# EAGLE library part KSZ8081RNBIA (library ICs)
1/1 Transceiver Full RMII 32-QFN (5x5)
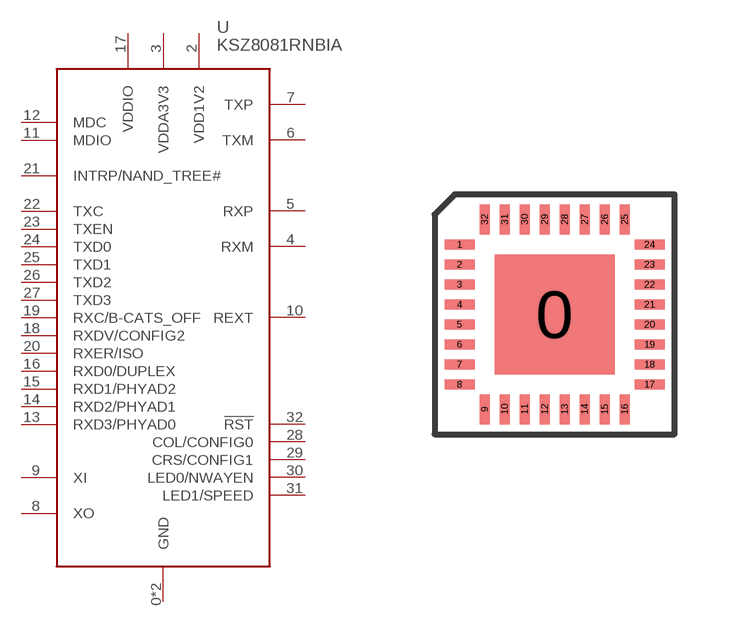
[diagram p237: symbol with the pads of QFN32; footprint QFN32]

Designator prefix U

## KSZ8081RNBIA (DIGIKEY: 576-4176-1-ND; HEIGHT: 1; PRICE_PER: 1.06; VALUE: KSZ8081)  [QFN32]
0  GND
1  GND
2  VDD1V2
3  VDDA3V3
4  RXM
5  RXP
6  TXM
7  TXP
8  XO
9  XI
10  REXT
11  MDIO
12  MDC
13  RXD3/PHYAD0
14  RXD2/PHYAD1
15  RXD1/PHYAD2
16  RXD0/DUPLEX
17  VDDIO
18  RXDV/CONFIG2
19  RXC/B-CATS_OFF
20  RXER/ISO
21  INTRP/NAND_TREE#
22  TXC
23  TXEN
24  TXD0
25  TXD1
26  TXD2
27  TXD3
28  COL/CONFIG0
29  CRS/CONFIG1
30  LED0/NWAYEN
31  LED1/SPEED
32  !RST

## Footprint QFN32 (pad centres in mm)
smd 3 x 3: 0 0,0
smd 0.75 x 0.25: 1 -2.375,1.75; 2 -2.375,1.25; 3 -2.375,0.75; 4 -2.375,0.25; 5 -2.375,-0.25; 6 -2.375,-0.75; 7 -2.375,-1.25; 8 -2.375,-1.75; 17 2.375,-1.75; 18 2.375,-1.25; 19 2.375,-0.75; 20 2.375,-0.25; 21 2.375,0.25; 22 2.375,0.75; 23 2.375,1.25; 24 2.375,1.75
smd 0.25 x 0.75: 9 -1.75,-2.375; 10 -1.25,-2.375; 11 -0.75,-2.375; 12 -0.25,-2.375; 13 0.25,-2.375; 14 0.75,-2.375; 15 1.25,-2.375; 16 1.75,-2.375; 25 1.75,2.375; 26 1.25,2.375; 27 0.75,2.375; 28 0.25,2.375; 29 -0.25,2.375; 30 -0.75,2.375; 31 -1.25,2.375; 32 -1.75,2.375